# EAGLE library part FT230X (library clackboard_lib)
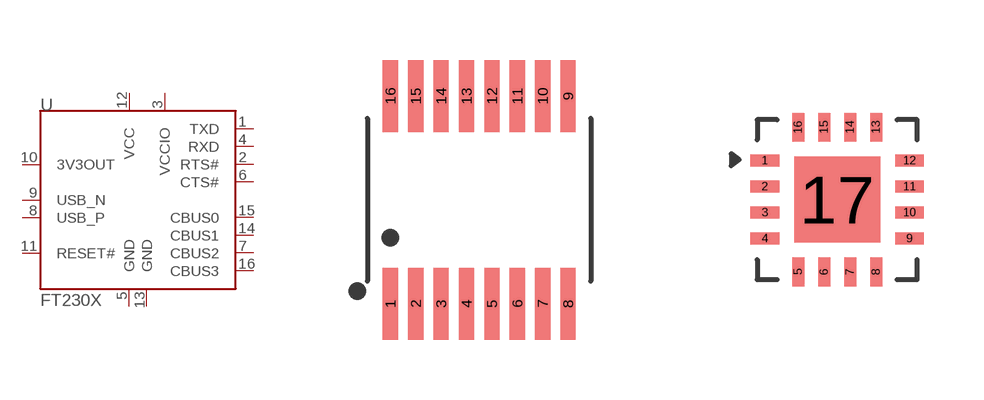
[diagram p17: symbol with the pads of 16-LD_SSOP; footprints 16-LD_SSOP, 4X4MM_QFN16]

Designator prefix U

## FT230X  [16-LD_SSOP]
1  TXD
2  RTS#
3  VCCIO
4  RXD
5  GND
6  CTS#
7  CBUS2
8  USB_P
9  USB_N
10  3V3OUT
11  RESET#
12  VCC
13  GND
14  CBUS1
15  CBUS0
16  CBUS3

## FT230XQFN  [4X4MM_QFN16]
1  VCCIO
2  RXD
3  GND
4  CTS#
5  CBUS2
6  USB_P
7  USB_N
8  3V3OUT
9  RESET#
10  VCC
11  CBUS1
12  CBUS0
13  GND
14  CBUS3
15  TXD
16  RTS#
17  GND

## Footprint 16-LD_SSOP (pad centres in mm)
smd 0.38 x 1.8: 1 -2.223,-2.6; 2 -1.587,-2.6; 3 -0.953,-2.6; 4 -0.318,-2.6; 5 0.318,-2.6; 6 0.953,-2.6; 7 1.587,-2.6; 8 2.223,-2.6; 9 2.223,2.6; 10 1.587,2.6; 11 0.953,2.6; 12 0.318,2.6; 13 -0.318,2.6; 14 -0.953,2.6; 15 -1.587,2.6; 16 -2.223,2.6

## Footprint 4X4MM_QFN16 (pad centres in mm)
smd 0.72 x 0.3: 1 -1.81,0.975; 2 -1.81,0.325; 3 -1.81,-0.325; 4 -1.81,-0.975; 9 1.81,-0.975; 10 1.81,-0.325; 11 1.81,0.325; 12 1.81,0.975
smd 0.3 x 0.72: 5 -0.975,-1.81; 6 -0.325,-1.81; 7 0.325,-1.81; 8 0.975,-1.81; 13 0.975,1.81; 14 0.325,1.81; 15 -0.325,1.81; 16 -0.975,1.81
smd 2.15 x 2.15: 17 0,0